# EAGLE library part SN74LVC1G3157DBVR (library FSAE Electric)
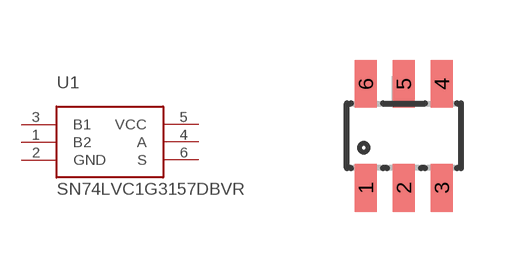
[diagram p20: symbol with the pads of SOT23-6; footprint SOT23-6]

Designator prefix U1

## SN74LVC1G3157DBVR (PARTNO: SN74LVC1G3157DBVR)  [SOT23-6]
1  B2
2  GND
3  B1
4  A
5  VCC
6  S

## Footprint SOT23-6 (pad centres in mm)
smd 0.55 x 1.2: 1 -0.95,-1.3; 2 0,-1.3; 3 0.95,-1.3; 4 0.95,1.3; 5 0,1.3; 6 -0.95,1.3